# EAGLE library part 61206422821 (library Wire-to-Board (rev18a))
WR-BHD 2.54mm Male Box Header With Lever, 64 Pins=>Code : Con_WTB_BHD_2.54_Male_THT_WS_61206422821 <http://katalog.we-online.de/media/thumbs2/eican/thb_Con_WTB_BHD_2.54_Male_THT_WS_6120xx22821_pf2.jpg> Details see: http://katalog.we-online.de/en/em/612_0xx_228_21 Created 2014-06-05, Karrer Zheng 2014 (C) Würth Elektronik
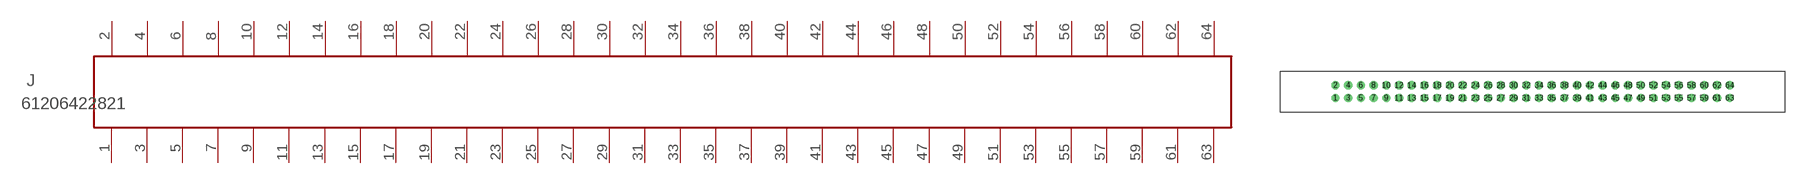
[diagram p209: symbol with the pads of 61206422821; footprint 61206422821]

Designator prefix J

## 61206422821  [61206422821]
1  64  pas
2  63  pas
3  62  pas
4  61  pas
5  60  pas
6  59  pas
7  58  pas
8  57  pas
9  56  pas
10  55  pas
11  54  pas
12  53  pas
13  52  pas
14  51  pas
15  50  pas
16  49  pas
17  48  pas
18  47  pas
19  46  pas
20  45  pas
21  44  pas
22  43  pas
23  42  pas
24  41  pas
25  40  pas
26  39  pas
27  38  pas
28  37  pas
29  36  pas
30  35  pas
31  34  pas
32  33  pas
33  32  pas
34  31  pas
35  30  pas
36  29  pas
37  28  pas
38  27  pas
39  26  pas
40  25  pas
41  24  pas
42  23  pas
43  22  pas
44  21  pas
45  20  pas
46  19  pas
47  18  pas
48  17  pas
49  16  pas
50  15  pas
51  14  pas
52  13  pas
53  12  pas
54  11  pas
55  10  pas
56  9  pas
57  8  pas
58  7  pas
59  6  pas
60  5  pas
61  4  pas
62  3  pas
63  2  pas
64  1  pas

## Footprint 61206422821 (pad centres in mm)
WR-BHD 2.54mm Male Box Header With Lever, 64 Pins
drill 1.1: 1 -39.37,-1.27; 2 -39.37,1.27; 3 -36.83,-1.27; 4 -36.83,1.27; 5 -34.29,-1.27; 6 -34.29,1.27; 7 -31.75,-1.27; 8 -31.75,1.27; 9 -29.21,-1.27; 10 -29.21,1.27; 11 -26.67,-1.27; 12 -26.67,1.27; 13 -24.13,-1.27; 14 -24.13,1.27; 15 -21.59,-1.27; 16 -21.59,1.27; 17 -19.05,-1.27; 18 -19.05,1.27; 19 -16.51,-1.27; 20 -16.51,1.27; 21 -13.97,-1.27; 22 -13.97,1.27; 23 -11.43,-1.27; 24 -11.43,1.27; 25 -8.89,-1.27; 26 -8.89,1.27; 27 -6.35,-1.27; 28 -6.35,1.27; 29 -3.81,-1.27; 30 -3.81,1.27; 31 -1.27,-1.27; 32 -1.27,1.27; 33 1.27,-1.27; 34 1.27,1.27; 35 3.81,-1.27; 36 3.81,1.27; 37 6.35,-1.27; 38 6.35,1.27; 39 8.89,-1.27; 40 8.89,1.27; 41 11.43,-1.27; 42 11.43,1.27; 43 13.97,-1.27; 44 13.97,1.27; 45 16.51,-1.27; 46 16.51,1.27; 47 19.05,-1.27; 48 19.05,1.27; 49 21.59,-1.27; 50 21.59,1.27; 51 24.13,-1.27; 52 24.13,1.27; 53 26.67,-1.27; 54 26.67,1.27; 55 29.21,-1.27; 56 29.21,1.27; 57 31.75,-1.27; 58 31.75,1.27; 59 34.29,-1.27; 60 34.29,1.27; 61 36.83,-1.27; 62 36.83,1.27; 63 39.37,-1.27; 64 39.37,1.27